# Altium schematic symbol library Transformer_EE85_IV_Push-Pull.SchLib: 1 symbol
Pins are listed as number, name and electrical type; pins without a type are passive.

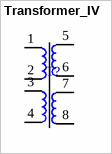
[diagram p0: symbol Transformer_IV]

## Transformer_IV
designator T?
footprint EE84AA Hor
pins: 1, 2, 3, 4, 5, 6, 7, 8